# Altium footprint library TE_5-146257-3.PcbLib: 1 footprints
Each footprint in its own frame and in the unit in brackets; x right, y up, seen from the top. Pads: shape width x height; smd on the part's side, far side on the other; paste and mask are expansions set on the pad; w line width, h text height; cw(c..) or ccw(c..) is an arc to the next point about the centre after c.
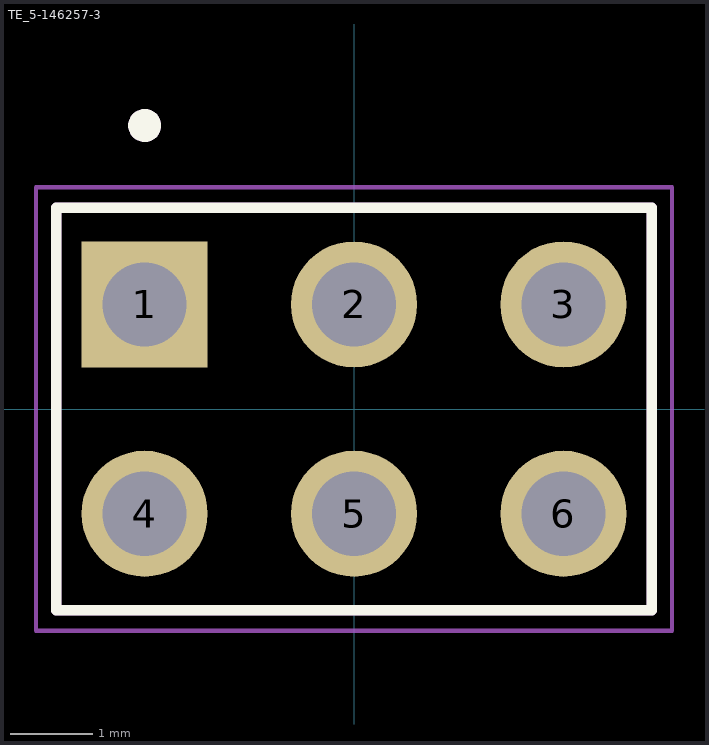
[diagram p0: the footprint, top view; thin cyan lines are the x and y axes]

## TE_5-146257-3 [mm]
pads (6):
  rect 1.53x1.53 / inner round 1.53 / far side rect 1.53x1.53 hole 1.02: 1(-2.54,1.27)
  round 1.53 hole 1.02: 2(0,1.27) 3(2.54,1.27) 4(-2.54,-1.27) 5(0,-1.27) 6(2.54,-1.27)
Top Overlay:
  circle w0.2: c-2.54,3.44 r0.1
  lines w0.127: -3.61,-2.44 -3.61,2.44 3.61,2.44 3.61,-2.44 -3.61,-2.44
Mechanical 13:
  circle w0.2: c-2.54,3.44 r0.1
  lines w0.127: -3.61,-2.44 -3.61,2.44 3.61,2.44 3.61,-2.44 -3.61,-2.44
Mechanical 15:
  lines w0.05: -3.86,-2.69 -3.86,2.69 3.86,2.69 3.86,-2.69 -3.86,-2.69
3D body "step_temp.STEP": height 2.44, standoff -2.44, extent -3.607,-5.842 3.607,5.334